# Altium schematic symbol library QuadComp_Fairchild_LM339M.SchLib: 1 symbol
Pins are listed as number, name and electrical type; pins without a type are passive.

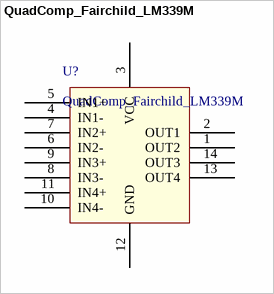
[diagram p0: symbol QuadComp_Fairchild_LM339M]

## QuadComp_Fairchild_LM339M
designator U?
pins: 1 OUT2, 2 OUT1, 3 VCC, 4 IN1-, 5 IN1+, 6 IN2-, 7 IN2+, 8 IN3-, 9 IN3+, 10 IN4-, 11 IN4+, 12 GND, 13 OUT4, 14 OUT3